# EAGLE library part RAM128KX8 (library xess)
128K x 8-bit static RAM.
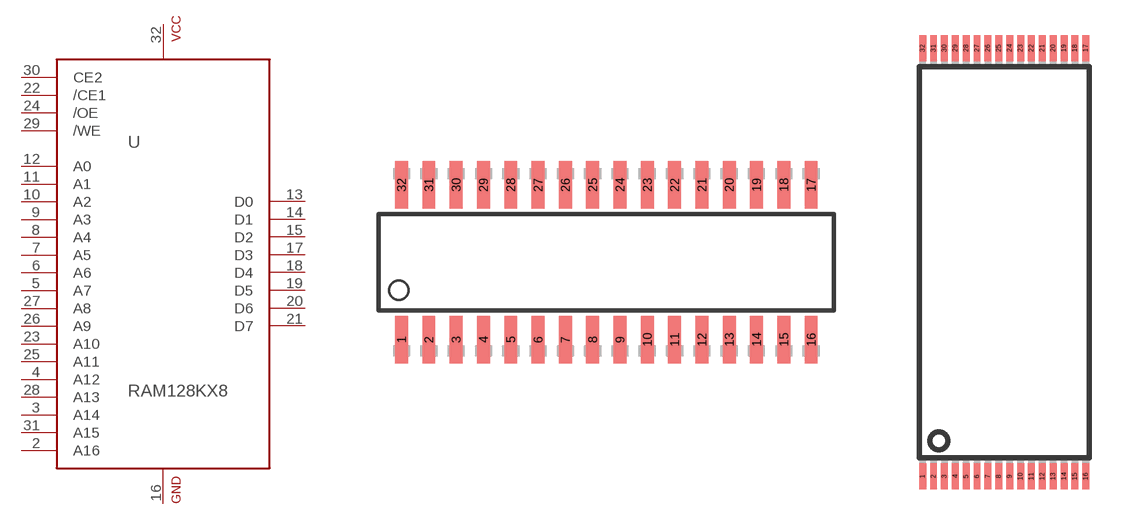
[diagram p8: symbol with the pads of SOJ32-3; footprints SOJ32-3, TSOP32]

Designator prefix U

## RAM128KX8SOJ  [SOJ32-3]
2  A16  in
3  A14  in
4  A12  in
5  A7  in
6  A6  in
7  A5  in
8  A4  in
9  A3  in
10  A2  in
11  A1  in
12  A0  in
13  D0
14  D1
15  D2
16  GND  pwr
17  D3
18  D4
19  D5
20  D6
21  D7
22  /CE1  in
23  A10  in
24  /OE  in
25  A11  in
26  A9  in
27  A8  in
28  A13  in
29  /WE  in
30  CE2  in
31  A15  in
32  +5V  pwr

## RAM128KX8TSOP32  [TSOP32]
1  A11  in
2  A9  in
3  A8  in
4  A13  in
5  /WE  in
6  CE2  in
7  A15  in
8  +5V  pwr
10  A16  in
11  A14  in
12  A12  in
13  A7  in
14  A6  in
15  A5  in
16  A4  in
17  A3  in
18  A2  in
19  A1  in
20  A0  in
21  D0
22  D1
23  D2
24  GND  pwr
25  D3
26  D4
27  D5
28  D6
29  D7
30  /CE1  in
31  A10  in
32  /OE  in

## Footprint SOJ32-3 (pad centres in mm)
smd 0.6 x 2.2: 1 -9.525,-3.6; 2 -8.255,-3.6; 3 -6.985,-3.6; 4 -5.715,-3.6; 5 -4.445,-3.6; 6 -3.175,-3.6; 7 -1.905,-3.6; 8 -0.635,-3.6; 9 0.635,-3.6; 10 1.905,-3.6; 11 3.175,-3.6; 12 4.445,-3.6; 13 5.715,-3.6; 14 6.985,-3.6; 15 8.255,-3.6; 16 9.525,-3.6; 17 9.525,3.6; 18 8.255,3.6; 19 6.985,3.6; 20 5.715,3.6; 21 4.445,3.6; 22 3.175,3.6; 23 1.905,3.6; 24 0.635,3.6; 25 -0.635,3.6; 26 -1.905,3.6; 27 -3.175,3.6; 28 -4.445,3.6; 29 -5.715,3.6; 30 -6.985,3.6; 31 -8.255,3.6; 32 -9.525,3.6

## Footprint TSOP32 (pad centres in mm)
smd 0.32 x 1.2: 1 -3.75,-9.85; 2 -3.25,-9.85; 3 -2.75,-9.85; 4 -2.25,-9.85; 5 -1.75,-9.85; 6 -1.25,-9.85; 7 -0.75,-9.85; 8 -0.25,-9.85; 9 0.25,-9.85; 10 0.75,-9.85; 11 1.25,-9.85; 12 1.75,-9.85; 13 2.25,-9.85; 14 2.75,-9.85; 15 3.25,-9.85; 16 3.75,-9.85; 17 3.75,9.85; 18 3.25,9.85; 19 2.75,9.85; 20 2.25,9.85; 21 1.75,9.85; 22 1.25,9.85; 23 0.75,9.85; 24 0.25,9.85; 25 -0.25,9.85; 26 -0.75,9.85; 27 -1.25,9.85; 28 -1.75,9.85; 29 -2.25,9.85; 30 -2.75,9.85; 31 -3.25,9.85; 32 -3.75,9.85